# Altium schematic symbol library USB3320C-EZK.SchLib: 1 symbol
Pins are listed as number, name and electrical type; pins without a type are passive.

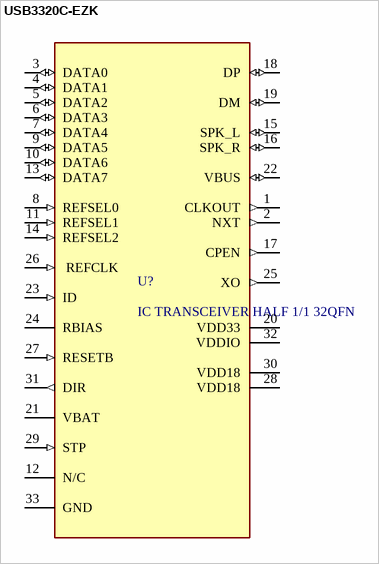
[diagram p0: symbol USB3320C-EZK]

## USB3320C-EZK
designator U?, comment IC TRANSCEIVER HALF 1/1 32QFN
1/1 Transceiver Half USB 2.0 32-QFN (5x5); Supplier 1: RSComponents; Supplier Part Number 1: 7160468
footprint QFN50P500X500X100_HS-33N (QFN, 32-Leads, Body 5/00x5/00mm, Pitch 0/50mm, Thermal Pad 3/30x3/30mm, IPC Medium Density)
pins: 1 CLKOUT (out), 2 NXT (out), 3 DATA0 (io), 4 DATA1 (io), 5 DATA2 (io), 6 DATA3 (io), 7 DATA4 (io), 8 REFSEL0 (in), 9 DATA5 (io), 10 DATA6 (io), 11 REFSEL1 (in), 12 N/C (power), 13 DATA7 (io), 14 REFSEL2 (in), 15 SPK_L (io), 16 SPK_R (io), 17 CPEN (out), 18 DP (io), 19  DM (io), 20 VDD33 (power), 21 VBAT (power), 22 VBUS (io), 23 ID (in), 24 RBIAS (power), 25 XO (out), 26  REFCLK (in), 27 RESETB (in), 28 VDD18 (power), 29 STP (in), 30 VDD18 (power), 31 DIR (out), 32 VDDIO (power), 33 GND (power)